# EAGLE library part MCM6249 (library memory-sram)
MEMORY
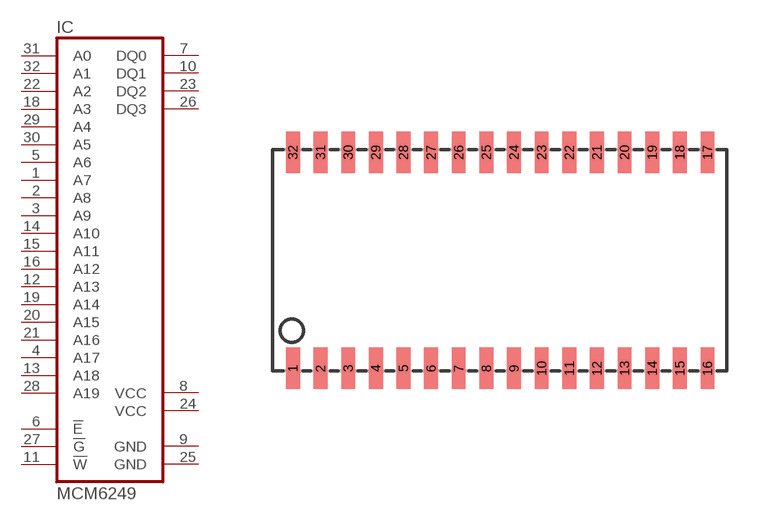
[diagram p23: symbol with the pads of SOJ32/4; footprint SOJ32/4]

Designator prefix IC

## MCM6249  [SOJ32/4]
1  A7  in
2  A8  in
3  A9  in
4  A17  in
5  A6  in
6  !E  in
7  DQ0
8  VCC  pwr
9  GND  pwr
10  DQ1
11  !W  in
12  A13  in
13  A18  in
14  A10  in
15  A11  in
16  A12  in
18  A3  in
19  A14  in
20  A15  in
21  A16  in
22  A2  in
23  DQ2
24  VCC  pwr
25  GND  pwr
26  DQ3
27  !G  in
28  A19  in
29  A4  in
30  A5  in
31  A0  in
32  A1  in

## Footprint SOJ32/4 (pad centres in mm)
Small Outline J-Bend
smd 0.635 x 1.905: 1 -9.525,-4.966; 2 -8.255,-4.966; 3 -6.985,-4.966; 4 -5.715,-4.966; 5 -4.445,-4.966; 6 -3.175,-4.966; 7 -1.905,-4.966; 8 -0.635,-4.966; 9 0.635,-4.966; 10 1.905,-4.966; 11 3.175,-4.966; 12 4.445,-4.966; 13 5.715,-4.966; 14 6.985,-4.966; 15 8.255,-4.966; 16 9.525,-4.966; 17 9.525,4.966; 18 8.255,4.966; 19 6.985,4.966; 20 5.715,4.966; 21 4.445,4.966; 22 3.175,4.966; 23 1.905,4.966; 24 0.635,4.966; 25 -0.635,4.966; 26 -1.905,4.966; 27 -3.175,4.966; 28 -4.445,4.966; 29 -5.715,4.966; 30 -6.985,4.966; 31 -8.255,4.966; 32 -9.525,4.966